# EAGLE library part 502443-0670 (library molex)
CONN RCPT VERT 6POS 2.00MM PCB tested: NO
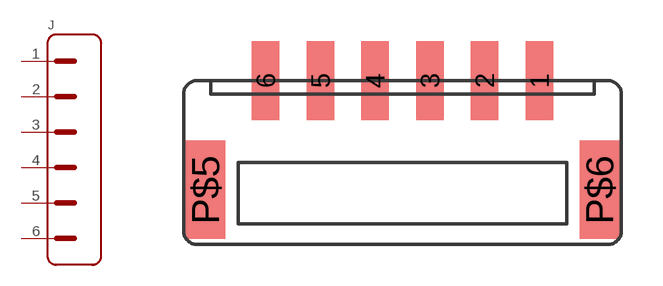
[diagram p0: symbol with the pads of 502443-0670; footprint 502443-0670]

Designator prefix J

## 502443-0670  [502443-0670]
1  1
2  2
3  3
4  4
5  5
6  6

## Footprint 502443-0670 (pad centres in mm)
smd 1 x 2.9: 1 5,4; 2 3,4; 3 1,4; 4 -1,4; 5 -3,4; 6 -5,4
smd 1.45 x 3.6: P$5 -7.2,0; P$6 7.2,0